# EAGLE library part AS3930 (library Micro2)
AS3930
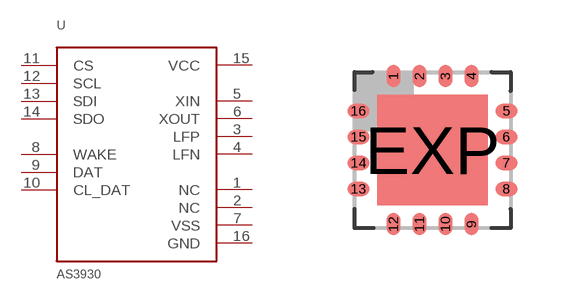
[diagram p9: symbol with the pads of AS3930; footprint AS3930]

Designator prefix -

## AS3930  [AS3930]
1  NC
2  NC
3  LFP
4  LFN
5  XIN
6  XOUT
7  VSS
8  WAKE
9  DAT
10  CL_DAT
11  CS
12  SCL
13  SDI
14  SDO
15  VCC
16  GND

## Footprint AS3930 (pad centres in mm)
AS3930 QFN16-4X4
smd 0.35 x 0.55: 1 -0.975,1.85; 2 -0.325,1.85; 3 0.325,1.85; 4 0.975,1.85; 9 0.975,-1.85; 10 0.325,-1.85; 11 -0.325,-1.85; 12 -0.975,-1.85
smd 0.55 x 0.35: 5 1.85,0.975; 6 1.85,0.325; 7 1.85,-0.325; 8 1.85,-0.975; 13 -1.85,-0.975; 14 -1.85,-0.325; 15 -1.85,0.325; 16 -1.85,0.975
smd 2.76 x 2.76: EXP 0,0